# Altium schematic symbol library 7-188275-4.SchLib: 1 symbol
Pins are listed as number, name and electrical type; pins without a type are passive.

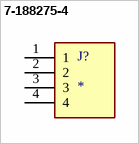
[diagram p0: symbol 7-188275-4]

## 7-188275-4
designator J?
MF: {'manufacturer': u'TE Connectivity'}; MP: 7-188275-4; Package: None; Price: None; Value: *; Availability: Unavailable
footprint TE_7-188275-4
pins: 1, 2, 3, 4